# Altium schematic symbol library R_SENSE.Schlib: 1 symbol
Pins are listed as number, name and electrical type; pins without a type are passive.

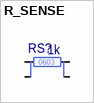
[diagram p0: symbol R_SENSE]

## R_SENSE
designator RS?, comment Resistance: 1k  Case Code (Imperial): 0603  (hidden comment: Current Sense Resistor)
pins: 1, 2, 3, 4
1 alternate drawing of the same symbol